# Altium footprint library Project_Oshinoko.PcbLib: 202 footprints (part 1 of 13)
Each footprint in its own frame and in the unit in brackets; x right, y up, seen from the top. Pads: shape width x height; smd on the part's side, far side on the other; paste and mask are expansions set on the pad; w line width, h text height; cw(c..) or ccw(c..) is an arc to the next point about the centre after c.
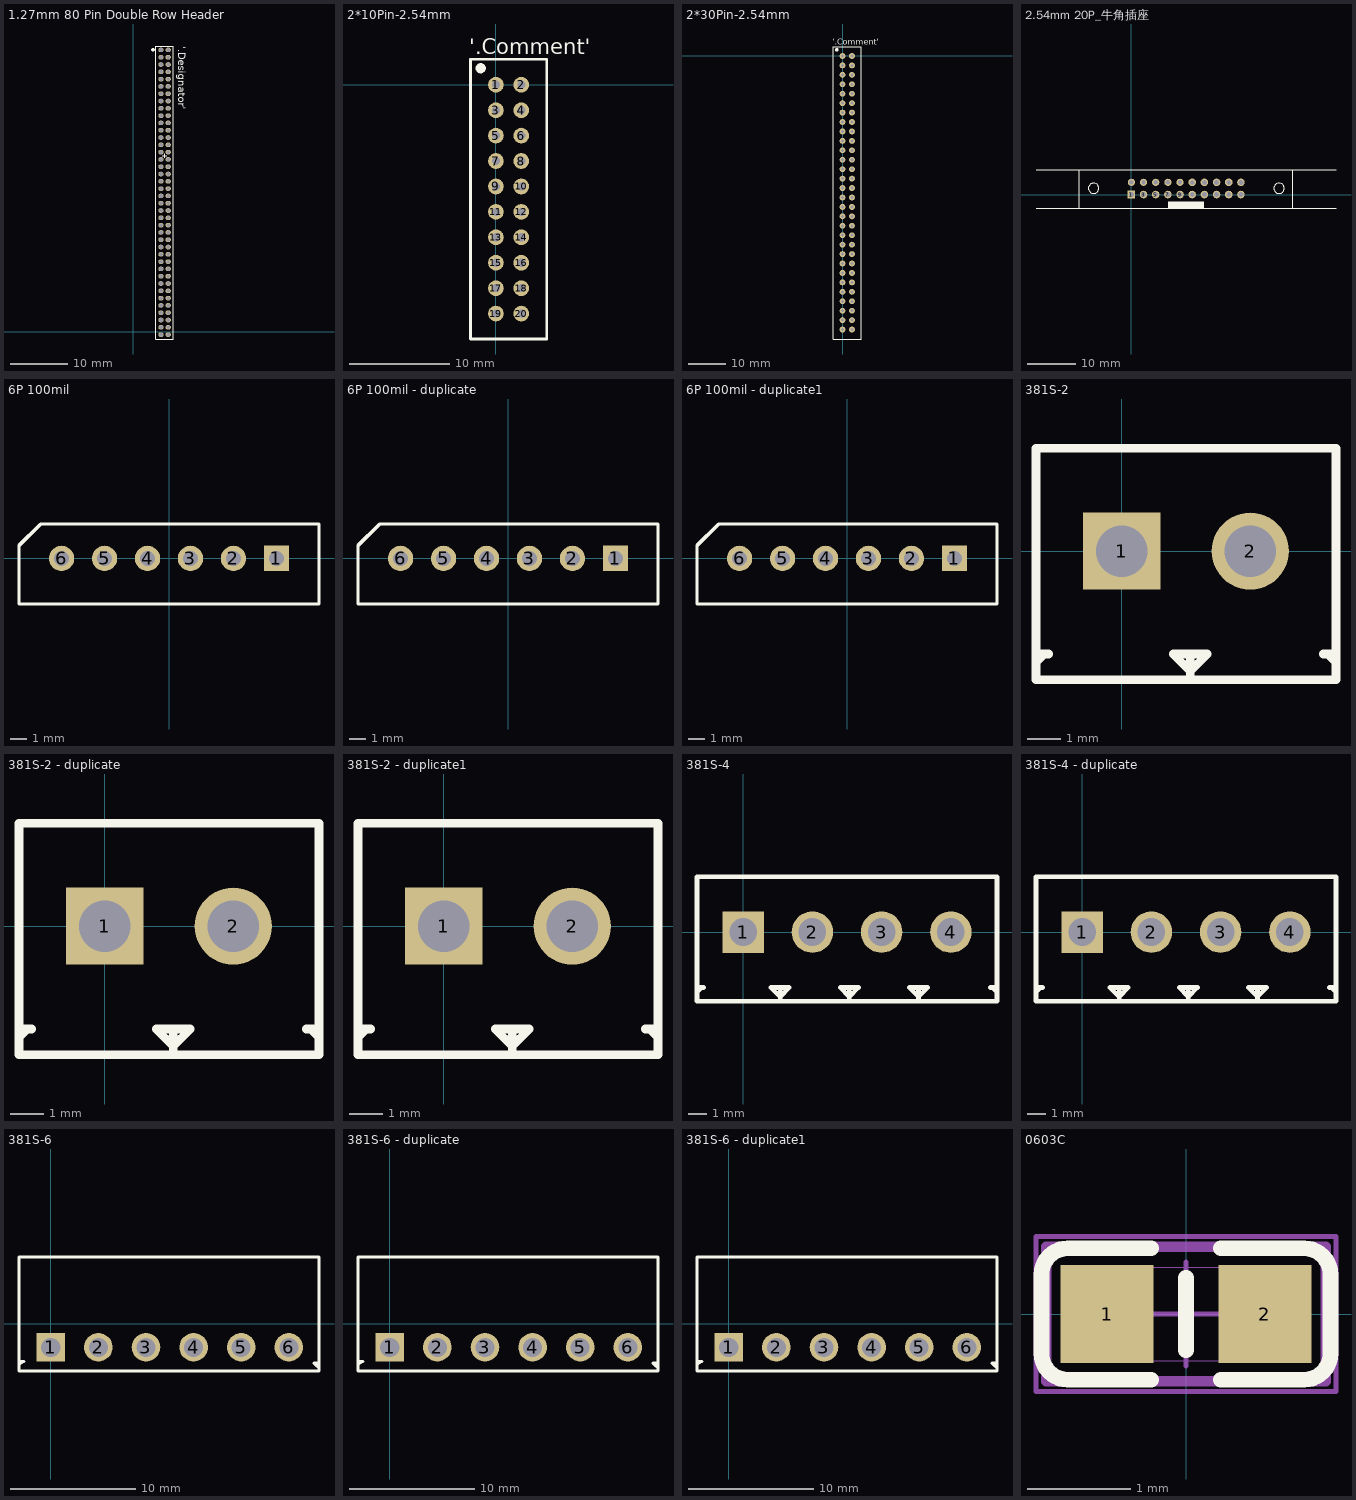
[diagram p0: the footprints below, top view; thin cyan lines are the x and y axes]

## 1.27mm 80 Pin Double Row Header [mil]
pads (80):
  oval 36x31.5 hole 25.59: 1(190,1930) 2(240,1930) 3(190,1880) 4(240,1880) 5(190,1830) 6(240,1830) 7(190,1780) 8(240,1780) 9(190,1730) 10(240,1730) 11(190,1680) 12(240,1680) 13(190,1630) 14(240,1630) 15(190,1580) 16(240,1580) 17(190,1530) 18(240,1530) 19(190,1480) 20(240,1480) 21(190,1430) 22(240,1430) 23(190,1380) 24(240,1380) 25(190,1330) 26(240,1330) 27(190,1280) 28(240,1280) 29(190,1230) 30(240,1230) 31(190,1180) 32(240,1180) 33(190,1130) 34(240,1130) 35(190,1080) 36(240,1080) 37(190,1030) 38(240,1030) 39(190,980) 40(240,980) 41(190,930) 42(240,930) 43(190,880) 44(240,880) 45(190,830) 46(240,830) 47(190,780) 48(240,780) 49(190,730) 50(240,730) 51(190,680) 52(240,680) 53(190,630) 54(240,630) 55(190,580) 56(240,580) 57(190,530) 58(240,530) 59(190,480) 60(240,480) 61(190,430) 62(240,430) 63(190,380) 64(240,380) 65(190,330) 66(240,330) 67(190,280) 68(240,280) 69(190,230) 70(240,230) 71(190,180) 72(240,180) 73(190,130) 74(240,130) 75(190,80) 76(240,80) 77(190,30) 78(240,30) 79(190,-20) 80(240,-20)
Top Overlay:
  circle w15: c136,1931 r5
  lines w6: 200,1205 230,1205 ; 215,1190 215,1205 215,1220
  lines w8: 155.94,-50 274.06,-50 274.06,455 274.06,1955 155.94,1955 155.94,455 155.94,-50
  text "'.Designator'" at 310,1955 h50

## 2*10Pin-2.54mm [mil]
pads (20):
  round 62 hole 32: 1(0,0) 2(100,0) 3(0,-100) 4(100,-100) 5(0,-200) 6(100,-200) 7(0,-300) 8(100,-300) 9(0,-400) 10(100,-400) 11(0,-500) 12(100,-500) 13(0,-600) 14(100,-600) 15(0,-700) 16(100,-700) 17(0,-800) 18(100,-800) 19(0,-900) 20(100,-900)
Top Overlay:
  circle w20: c-60,65 r10
  lines w10: -100,-1000 -100,100 200,100 200,-1000 -100,-1000
  text "'.Comment'" at -105,120 h60

## 2*30Pin-2.54mm [mil]
pads (60):
  round 62 hole 32: 161(0,0) 162(100,0) 163(0,-100) 164(100,-100) 165(0,-200) 166(100,-200) 167(0,-300) 168(100,-300) 169(0,-400) 170(100,-400) 171(0,-500) 172(100,-500) 173(0,-600) 174(100,-600) 175(0,-700) 176(100,-700) 177(0,-800) 178(100,-800) 179(0,-900) 180(100,-900) 181(0,-1000) 182(100,-1000) 183(0,-1100) 184(100,-1100) 185(0,-1200) 186(100,-1200) 187(0,-1300) 188(100,-1300) 189(0,-1400) 190(100,-1400) 191(0,-1500) 192(100,-1500) 193(0,-1600) 194(100,-1600) 195(0,-1700) 196(100,-1700) 197(0,-1800) 198(100,-1800) 199(0,-1900) 200(100,-1900) 201(0,-2000) 202(100,-2000) 203(0,-2100) 204(100,-2100) 205(0,-2200) 206(100,-2200) 207(0,-2300) 208(100,-2300) 209(0,-2400) 210(100,-2400) 211(0,-2500) 212(100,-2500) 213(0,-2600) 214(100,-2600) 215(0,-2700) 216(100,-2700) 217(0,-2800) 218(100,-2800) 219(0,-2900) 220(100,-2900)
Top Overlay:
  circle w20: c-60,65 r10
  lines w10: -100,-3000 200,-3000 200,100 -100,100 -100,-3000
  text "'.Comment'" at -105,120 h60

## 2.54mm 20P_牛角插座 [mm]
pads (20):
  rect 1.576x1.576 hole 1.027: 1(0,0)
  round 1.5 hole 0.9: 2(0,2.54) 4(2.54,2.54) 6(5.08,2.54) 8(7.62,2.54) 10(10.16,2.54)
  round 1.576 hole 1.027: 3(2.54,0) 5(5.08,0) 7(7.62,0) 9(10.16,0) 11(12.7,0) 12(12.7,2.54) 13(15.24,0) 14(15.24,2.54) 15(17.78,0) 16(17.78,2.54) 17(20.32,0) 18(20.32,2.54) 19(22.86,0) 20(22.86,2.54)
Top Overlay:
  circle w0.254: c-7.882,1.3 r1.082
  circle w0.254: c30.818,1.3 r1.082
  rectangle: 7.6,-2.9 15.2,-1.5
  lines w0.254: -19.9,-2.9 -10.9,-2.9 ; -19.9,5.2 -10.9,5.2 ; 42.7,-2.9 33.7,-2.9 ; 42.7,5.2 33.7,5.2 ; -10.9,-2.9 33.7,-2.9 ; -10.9,-2.9 -10.9,5.2 ; -10.9,5.2 33.7,5.2 ; 33.7,-2.9 33.7,5.2

## 6P 100mil [mm]
pads (6):
  rect 1.5x1.5 hole 0.9: 1(6.35,0)
  round 1.5 hole 0.9: 2(3.81,0) 3(1.27,0) 4(-1.27,0) 5(-3.81,0) 6(-6.35,0)
Top Overlay:
  lines w0.2: -8.865,-2.692 8.865,-2.692 8.865,2.032 -7.595,2.032 -8.865,0.762 -8.865,-2.692

## 6P 100mil - duplicate [mm]
pads (6):
  rect 1.5x1.5 hole 0.9: 1(6.35,0)
  round 1.5 hole 0.9: 2(3.81,0) 3(1.27,0) 4(-1.27,0) 5(-3.81,0) 6(-6.35,0)
Top Overlay:
  lines w0.2: -8.865,-2.692 8.865,-2.692 8.865,2.032 -7.595,2.032 -8.865,0.762 -8.865,-2.692

## 6P 100mil - duplicate1 [mm]
pads (6):
  rect 1.5x1.5 hole 0.9: 1(6.35,0)
  round 1.5 hole 0.9: 2(3.81,0) 3(1.27,0) 4(-1.27,0) 5(-3.81,0) 6(-6.35,0)
Top Overlay:
  lines w0.2: -8.865,-2.692 8.865,-2.692 8.865,2.032 -7.595,2.032 -8.865,0.762 -8.865,-2.692

## 381S-2 [mil]
pads (2):
  rect 90x90 hole 60: 1(0,0)
  round 90 hole 60: 2(150,0)
Top Overlay:
  lines w10: -100,-130 -90,-120 ; -100,-120 -85,-120 ; 80,-150 80,-120 ; 235,-120 250,-120 ; 240,-120 250,-130 ; -100,-150 -100,120 250,120 250,-150 -100,-150 ; 60,-120 80,-140 100,-120 60,-120

## 381S-2 - duplicate [mil]
pads (2):
  rect 90x90 hole 60: 1(0,0)
  round 90 hole 60: 2(150,0)
Top Overlay:
  lines w10: -100,-130 -90,-120 ; -100,-120 -85,-120 ; 80,-150 80,-120 ; 235,-120 250,-120 ; 240,-120 250,-130 ; -100,-150 250,-150 250,120 -100,120 -100,-150 ; 60,-120 100,-120 80,-140 60,-120

## 381S-2 - duplicate1 [mil]
pads (2):
  rect 90x90 hole 60: 1(0,0)
  round 90 hole 60: 2(150,0)
Top Overlay:
  lines w10: -100,-130 -90,-120 ; -100,-120 -85,-120 ; 80,-150 80,-120 ; 235,-120 250,-120 ; 240,-120 250,-130 ; -100,-150 250,-150 250,120 -100,120 -100,-150 ; 60,-120 100,-120 80,-140 60,-120

## 381S-4 [mil]
pads (4):
  rect 90x90 hole 60: 1(0,0)
  round 90 hole 60: 2(150,0) 3(300,0) 4(450,0)
Top Overlay:
  lines w10: -100,-150 -100,120 ; -100,-130 -90,-120 ; -100,-120 -85,-120 ; -98.42,-150 548.42,-150 ; -98.42,120 548.42,120 ; 80,-150 80,-120 ; 230,-150 230,-120 ; 380,-150 380,-120 ; 535,-120 550,-120 ; 540,-120 550,-130 ; 550,-150 550,120 ; 60,-120 100,-120 80,-140 60,-120 ; 210,-120 250,-120 230,-140 210,-120 ; 360,-120 400,-120 380,-140 360,-120

## 381S-4 - duplicate [mil]
pads (4):
  rect 90x90 hole 60: 1(0,0)
  round 90 hole 60: 2(150,0) 3(300,0) 4(450,0)
Top Overlay:
  lines w10: -100,-150 -100,120 ; -100,-130 -90,-120 ; -100,-120 -85,-120 ; -98.42,-150 548.42,-150 ; -98.42,120 548.42,120 ; 80,-150 80,-120 ; 230,-150 230,-120 ; 380,-150 380,-120 ; 535,-120 550,-120 ; 540,-120 550,-130 ; 550,-150 550,120 ; 60,-120 100,-120 80,-140 60,-120 ; 210,-120 250,-120 230,-140 210,-120 ; 360,-120 400,-120 380,-140 360,-120

## 381S-6 [mil]
pads (6):
  rect 90x90 hole 60: 1(0,-75)
  round 90 hole 60: 2(150,-75) 3(300,-75) 4(450,-75) 5(600,-75) 6(750,-75)
Top Overlay:
  lines w10: -100,-150 -100,210 845,210 845,-150 -98.42,-150 ; -100,-130 -90,-120 ; -100,-120 -85,-120 ; 840,-135 830,-125 845,-125

## 381S-6 - duplicate [mil]
pads (6):
  rect 90x90 hole 60: 1(0,-75)
  round 90 hole 60: 2(150,-75) 3(300,-75) 4(450,-75) 5(600,-75) 6(750,-75)
Top Overlay:
  lines w10: -100,-150 -100,210 845,210 845,-150 -98.42,-150 ; -100,-130 -90,-120 ; -100,-120 -85,-120 ; 840,-135 830,-125 845,-125

## 381S-6 - duplicate1 [mil]
pads (6):
  rect 90x90 hole 60: 1(0,-75)
  round 90 hole 60: 2(150,-75) 3(300,-75) 4(450,-75) 5(600,-75) 6(750,-75)
Top Overlay:
  lines w10: -100,-150 -100,210 845,210 845,-150 -98.42,-150 ; -100,-130 -90,-120 ; -100,-120 -85,-120 ; 840,-135 830,-125 845,-125

## 0603C [mm]
height 0.127
pads (2):
  rect 0.9x0.95 smd: 1(-0.762,0) 2(0.762,0)
Top Overlay:
  lines w0.152: -0.337,-0.635 -1.143,-0.635 cw(c-1.143,-0.381) -1.397,-0.381 -1.397,0.381 cw(c-1.143,0.381) -1.143,0.635 -0.337,0.635 ; 0,-0.35 0,0.35 ; 0.337,-0.635 1.143,-0.635 ccw(c1.143,-0.381) 1.397,-0.381 1.397,0.381 ccw(c1.143,0.381) 1.143,0.635 0.337,0.635
Mechanical 15:
  lines w0.1: -1.35,-0.65 -1.35,0.65 1.35,0.65 1.35,-0.65 -1.35,-0.65
  text "1" at -0.126,-0.345 h0.91
Mechanical 16:
  lines w0.001: -0.85,-0.45 -0.85,0.45 0.85,0.45 0.85,-0.45 -0.85,-0.45
  lines w0.05: -0.5,0 0.5,0 ; 0,-0.5 0,0.5 ; -1.45,-0.75 -1.45,0.75 1.45,0.75 1.45,-0.75 -1.45,-0.75
3D body "User Library-0603 SMD Capacitor.STEP": height 0.3, standoff 0, extent -0.789,-0.381 0.811,0.419